# EAGLE library part CP2102N-A01-GQFN28 (library interface-chips)
USB to UART Bridge Controller UART Interface 28-Pin QFN with charge detect
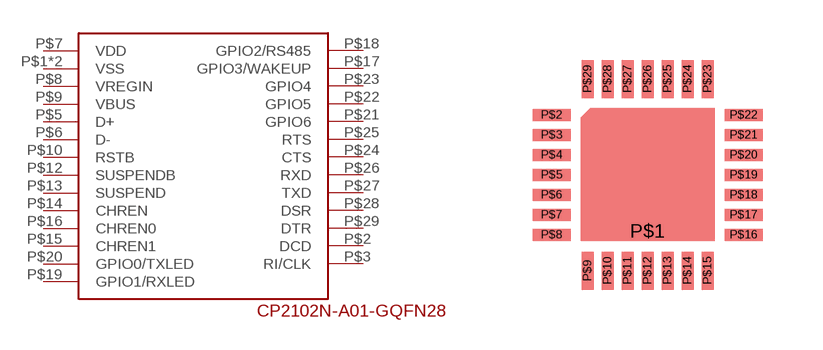
[diagram p0: symbol with the pads of QFN28; footprint QFN28]

Designator prefix -

## CP2102N-A01-GQFN28 (CHECKED: NC)  [QFN28]
P$1  VSS
P$2  DCD
P$3  RI/CLK
P$4  VSS
P$5  D+
P$6  D-
P$7  VDD
P$8  VREGIN
P$9  VBUS
P$10  RSTB
P$12  SUSPENDB
P$13  SUSPEND
P$14  CHREN
P$15  CHREN1
P$16  CHREN0
P$17  GPIO3/WAKEUP
P$18  GPIO2/RS485
P$19  GPIO1/RXLED
P$20  GPIO0/TXLED
P$21  GPIO6
P$22  GPIO5
P$23  GPIO4
P$24  CTS
P$25  RTS
P$26  RXD
P$27  TXD
P$28  DSR
P$29  DTR

## Footprint QFN28 (pad centres in mm)
smd 3.35 x 0.5: P$1 0,-1.4
smd 0.95 x 0.3: P$2 -2.4,1.5; P$3 -2.4,1; P$4 -2.4,0.5; P$5 -2.4,0; P$6 -2.4,-0.5; P$7 -2.4,-1; P$8 -2.4,-1.5; P$16 2.4,-1.5; P$17 2.4,-1; P$18 2.4,-0.5; P$19 2.4,0; P$20 2.4,0.5; P$21 2.4,1; P$22 2.4,1.5
smd 0.3 x 0.95: P$9 -1.5,-2.4; P$10 -1,-2.4; P$11 -0.5,-2.4; P$12 0,-2.4; P$13 0.5,-2.4; P$14 1,-2.4; P$15 1.5,-2.4; P$23 1.5,2.4; P$24 1,2.4; P$25 0.5,2.4; P$26 0,2.4; P$27 -0.5,2.4; P$28 -1,2.4; P$29 -1.5,2.4